# Altium footprint library PcbLib1.PcbLib: 2 footprints
Each footprint in its own frame and in the unit in brackets; x right, y up, seen from the top. Pads: shape width x height; smd on the part's side, far side on the other; paste and mask are expansions set on the pad; w line width, h text height; cw(c..) or ccw(c..) is an arc to the next point about the centre after c.
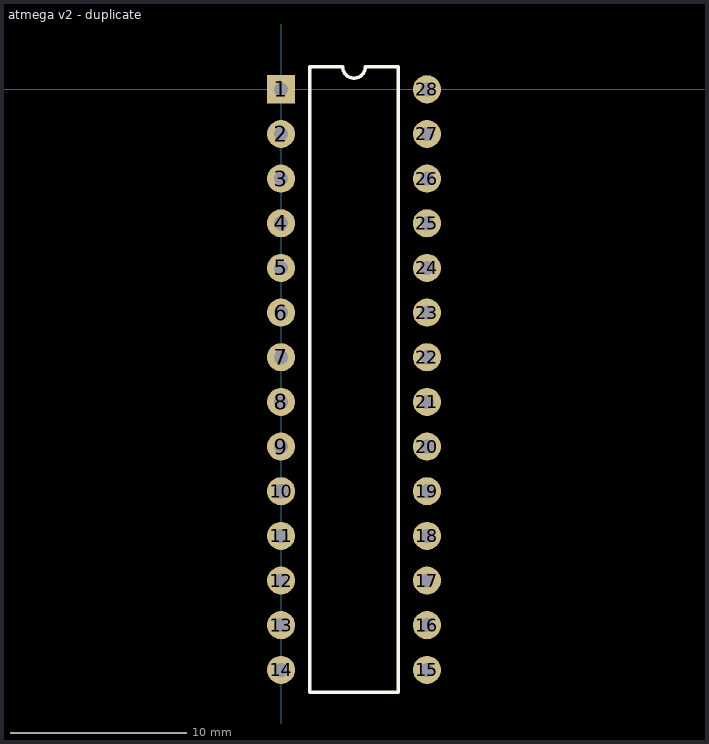
[diagram p0: the footprints below, top view; thin cyan lines are the x and y axes]

## atmega v2 - duplicate [mm]
pads (28):
  rect 1.6x1.6 hole 0.8: 1(0,0)
  round 1.6 hole 0.8: 2(0,-2.54) 3(0,-5.08) 4(0,-7.62) 5(0,-10.16) 6(0,-12.7) 7(0,-15.24) 8(0,-17.78) 9(0,-20.32) 10(0,-22.86) 11(0,-25.4) 12(0,-27.94) 13(0,-30.48) 14(0,-33.02) 15(8.3,-33.02) 16(8.3,-30.48) 17(8.3,-27.94) 18(8.3,-25.4) 19(8.3,-22.86) 20(8.3,-20.32) 21(8.3,-17.78) 22(8.3,-15.24) 23(8.3,-12.7) 24(8.3,-10.16) 25(8.3,-7.62) 26(8.3,-5.08) 27(8.3,-2.54) 28(8.3,0)
Top Overlay:
  lines w0.2: 1.635,-34.29 1.635,1.27 3.515,1.27 ccw(c4.15,1.27) 4.785,1.27 6.665,1.27 6.665,-34.29 1.635,-34.29
3D body "28P3_ATM.step": height 5.21, standoff -2.54, extent 0,-34.925 8.115,1.905

## PCBComponent_1 [mm]